# EAGLE library part ONETHINX_CORE_MODULE (library onethinx_core_module_18_1_Original)
Onethinx Core Module A PSoC6 based secure LoRa module
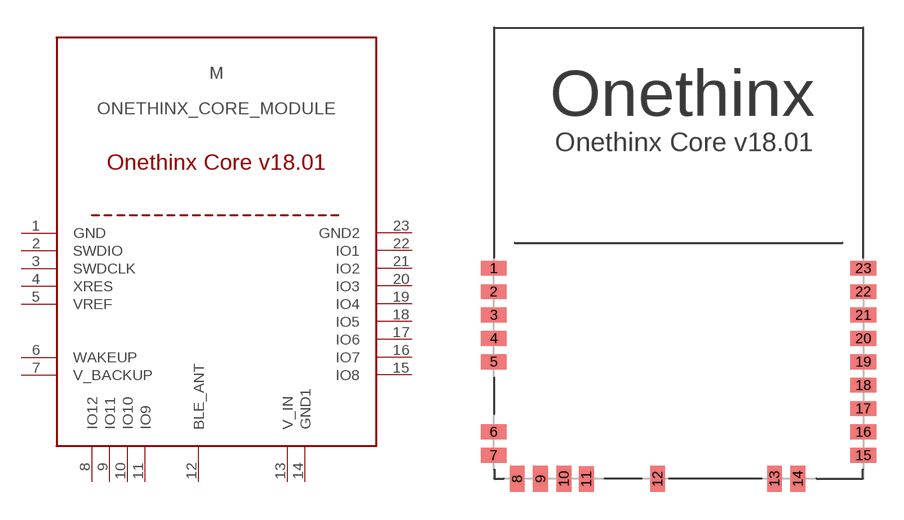
[diagram p0: symbol with the pads of ONETHINX_CORE_V18_01; footprint ONETHINX_CORE_V18_01]

Designator prefix M

## ONETHINX_CORE_MODULE  [ONETHINX_CORE_V18_01]
1  GND  pwr
2  SWDIO
3  SWDCLK
4  XRES
5  VREF  pwr
6  WAKEUP
7  V_BACKUP  pwr
8  IO12
9  IO11
10  IO10
11  IO9
12  BLE_ANT  pas
13  V_IN  pwr
14  GND1  pwr
15  IO8
16  IO7
17  IO6
18  IO5
19  IO4
20  IO3
21  IO2
22  IO1
23  GND2  pwr

## Footprint ONETHINX_CORE_V18_01 (pad centres in mm)
Onethinx Core Module v18.1 25-02-2019
smd 1.4 x 0.8: 1 -10.033,11.43; 2 -10.033,10.16; 3 -10.033,8.89; 4 -10.033,7.62; 5 -10.033,6.35; 6 -10.033,2.54; 7 -10.033,1.27; 15 10.033,1.27; 16 10.033,2.54; 17 10.033,3.81; 18 10.033,5.08; 19 10.033,6.35; 20 10.033,7.62; 21 10.033,8.89; 22 10.033,10.16; 23 10.033,11.43
smd 0.8 x 1.4: 8 -8.763,0; 9 -7.493,0; 10 -6.223,0; 11 -5.009,-0.015; 12 -1.143,0; 13 5.207,0; 14 6.477,0